# EAGLE library part RPI3 (library RPI)
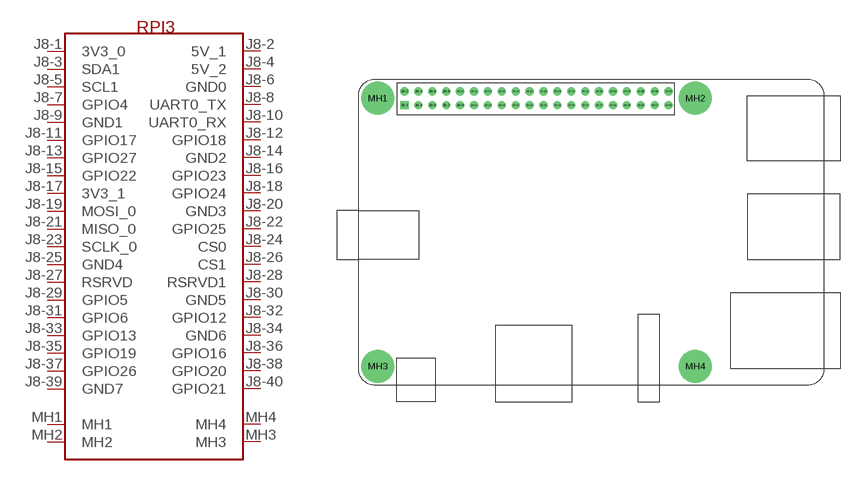
[diagram p0: symbol with the pads of RPI3; footprint RPI3]

Designator prefix -

## RPI3PI3  [RPI3]
J8-1  3V3_0
J8-2  5V_1
J8-3  SDA1
J8-4  5V_2
J8-5  SCL1
J8-6  GND0
J8-7  GPIO4
J8-8  UART0_TX
J8-9  GND1
J8-10  UART0_RX
J8-11  GPIO17
J8-12  GPIO18
J8-13  GPIO27
J8-14  GND2
J8-15  GPIO22
J8-16  GPIO23
J8-17  3V3_1
J8-18  GPIO24
J8-19  MOSI_0
J8-20  GND3
J8-21  MISO_0
J8-22  GPIO25
J8-23  SCLK_0
J8-24  CS0
J8-25  GND4
J8-26  CS1
J8-27  RSRVD
J8-28  RSRVD1
J8-29  GPIO5
J8-30  GND5
J8-31  GPIO6
J8-32  GPIO12
J8-33  GPIO13
J8-34  GND6
J8-35  GPIO19
J8-36  GPIO16
J8-37  GPIO26
J8-38  GPIO20
J8-39  GND7
J8-40  GPIO21
MH1  MH1
MH2  MH2
MH3  MH3
MH4  MH4

## Footprint RPI3 (pad centres in mm)
drill 1 square: J8-1 8.37,51.23
drill 1: J8-2 8.37,53.77; J8-3 10.91,51.23; J8-4 10.91,53.77; J8-5 13.45,51.23; J8-6 13.45,53.77; J8-7 15.99,51.23; J8-8 15.99,53.77; J8-9 18.53,51.23; J8-10 18.53,53.77; J8-11 21.07,51.23; J8-12 21.07,53.77; J8-13 23.61,51.23; J8-14 23.61,53.77; J8-15 26.15,51.23; J8-16 26.15,53.77; J8-17 28.69,51.23; J8-18 28.69,53.77; J8-19 31.23,51.23; J8-20 31.23,53.77; J8-21 33.77,51.23; J8-22 33.77,53.77; J8-23 36.31,51.23; J8-24 36.31,53.77; J8-25 38.85,51.23; J8-26 38.85,53.77; J8-27 41.39,51.23; J8-28 41.39,53.77; J8-29 43.93,51.23; J8-30 43.93,53.77; J8-31 46.47,51.23; J8-32 46.47,53.77; J8-33 49.01,51.23; J8-34 49.01,53.77; J8-35 51.55,51.23; J8-36 51.55,53.77; J8-37 54.09,51.23; J8-38 54.09,53.77; J8-39 56.63,51.23; J8-40 56.63,53.77
drill 2.75 pad 6: MH1 3.5,52.5; MH2 61.5,52.5; MH3 3.5,3.5; MH4 61.5,3.5